# Altium footprint library led.PcbLib: 35 footprints (part 3 of 3)
Each footprint in its own frame and in the unit in brackets; x right, y up, seen from the top. Pads: shape width x height; smd on the part's side, far side on the other; paste and mask are expansions set on the pad; w line width, h text height; cw(c..) or ccw(c..) is an arc to the next point about the centre after c.
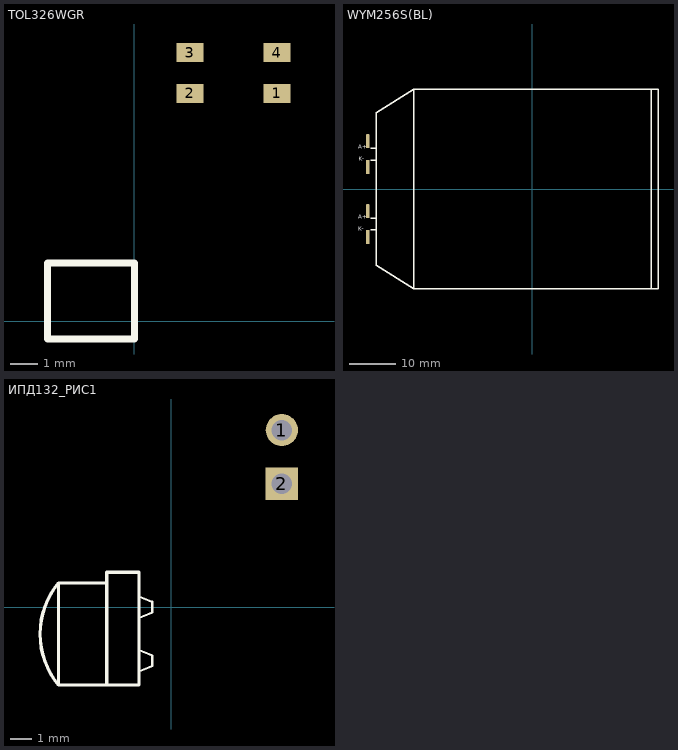
[diagram p2: the footprints below, top view; thin cyan lines are the x and y axes]

## TOL326WGR [mm]
pads (4):
  rect 1x0.7 smd: 1(5.244,8.374) 2(2.044,8.374) 3(2.044,9.874) 4(5.244,9.874)
Top Overlay:
  lines w0.254: -3.2,-0.66 -3.2,2.14 0,2.14 0,-0.66 -3.2,-0.66

## WYM256S(BL) [mm] "Baklight LCD"
pads (4):
  rrect50% 0.8x3 smd: 1(-35.32,10.28) 3(-35.32,-4.74)
  rect 0.8x3 smd: 2(-35.32,4.72) 4(-35.32,-10.28)
Top Overlay:
  lines w0.3: -34.67,8.76 -33.52,8.76 -33.5,8.78 ; -34.66,-8.78 -33.54,-8.78 ; -34.65,-6.24 -33.53,-6.24 -33.52,-6.23 ; -34.65,6.22 -33.51,6.22 -33.5,6.23 ; -33.5,-16.4 -33.5,16.4 -25.5,21.4 ; -33.5,-7.5 -33.5,0 -33.5,7.5 ; -33.485,-16.4 -25.5,-21.4 ; -25.5,21.3 -25.5,21.4 ; -25.5,-21.4 -25.5,21.4 ; -25.5,-21.4 -25,-21.4 25.5,-21.4 ; -25.5,21.4 0,21.4 25.5,21.4 ; 25.5,-21.4 27,-21.4 27,21.4 25.5,21.4 ; 25.5,-21.4 25.5,21.4
  text "A+" at -37.42,-6.68 h1.52
  text "K-" at -37.34,-9.3 h1.52
  text "K-" at -37.29,5.72 h1.52
  text "A+" at -37.34,8.28 h1.52
3D body "backlight_WYM256S.STEP": height 2.5, standoff 0.1, extent -35.52,-21.44 26.98,21.36

## ИПД132_РИС1 [mil]
pads (2):
  round 60 hole 38: 1(206.44,330.06)
  rect 60x60 hole 38: 2(206.44,230.06)
Top Overlay:
  lines w3.94: -60,-120 -35,-110 -35,-90 -60,-80 ; -60,-20 -35,-10 -35,10 -60,20
  lines w5.91: -209.93,-145.08 cw(c-95,-50) -209.93,45.08 ; -120,-145 -120,65 -60,65 -60,-145 -210,-145 -210,45 -120,45